# EAGLE library part 452406020024 (library WS-SLSV)
WS-SLSV SMT Mini Slide Switch Same Side Connection, 9.0 x 3.5 mm Material Properties Frame Material LCP Frame Flammability Rating UL94 V-0 Frame Color Black Actuator Material PA46; PA9T Actuator Flammability Rating UL94 HB Actuator Color Black Contact Material Copper Alloy Contact Plating Silver Terminal Material Copper Alloy Terminal Plating Silver General Information Operating Temperature -40 °C up to +85 °C Electrical Properties IR 300 mA VR 6 V (DC) Contact Resistance Initial 70 mΩ RISO 100 MΩ Withstanding Voltage 250 V (AC) Mechanical Properties Electrical Life 20000 Steps Connection Type Same Side Connection <https://www.we-online.com/components/media/o770209v209%20Family-WS-SLSV-45x406020024.jpg> Details see: www.we-online.com/en/components/products/SLIDE_SWITCHES_WS-SLSV <www.we-online.com/catalog/SLIDE_SWITCHES_WS-SLSV/?utm_source=eagle_model&utm_medium=description_link&utm_campaign=eisos_eagle> Created by Ella 2024-02-02 2022(C) Würth Elektronik
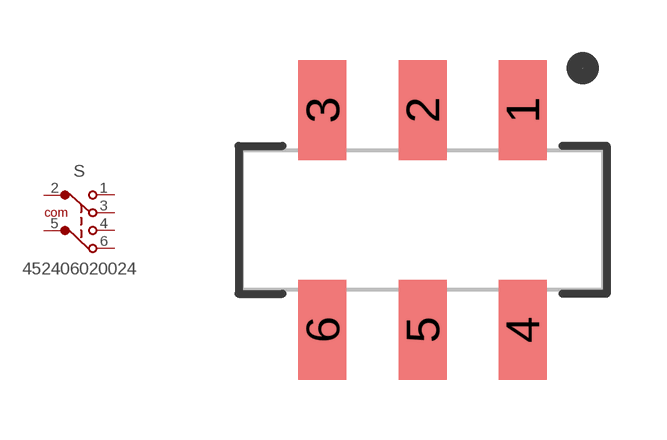
[diagram p0: symbol with the pads of 452406020024; footprint 452406020024]

Designator prefix S

## 452406020024 (DATASHEET-URL: https://www.we-online.com/redexpert/spec/452406020024?ae; IR: 300mA; OPERATION-FORCE: 450g; PART-NUMBER: 452406020024; SCHEMATIC: DPDT; VR: 6V (DC))  [452406020024]
1  1  pas
2  2  pas
3  3  pas
4  4  pas
5  5  pas
6  6  pas

## Footprint 452406020024 (pad centres in mm)
WS-SLSV SMT Mini Slide Switch Same Side Connection, 9.0 x 3.5 mm
smd 1.2 x 2.5: 1 2.5,2.75; 2 0,2.75; 3 -2.5,2.75; 4 2.5,-2.75; 5 0,-2.75; 6 -2.5,-2.75